# Altium footprint library PTH-Packages.PcbLib: 21 footprints (part 2 of 2)
Each footprint in its own frame and in the unit in brackets; x right, y up, seen from the top. Pads: shape width x height; smd on the part's side, far side on the other; paste and mask are expansions set on the pad; w line width, h text height; cw(c..) or ccw(c..) is an arc to the next point about the centre after c.
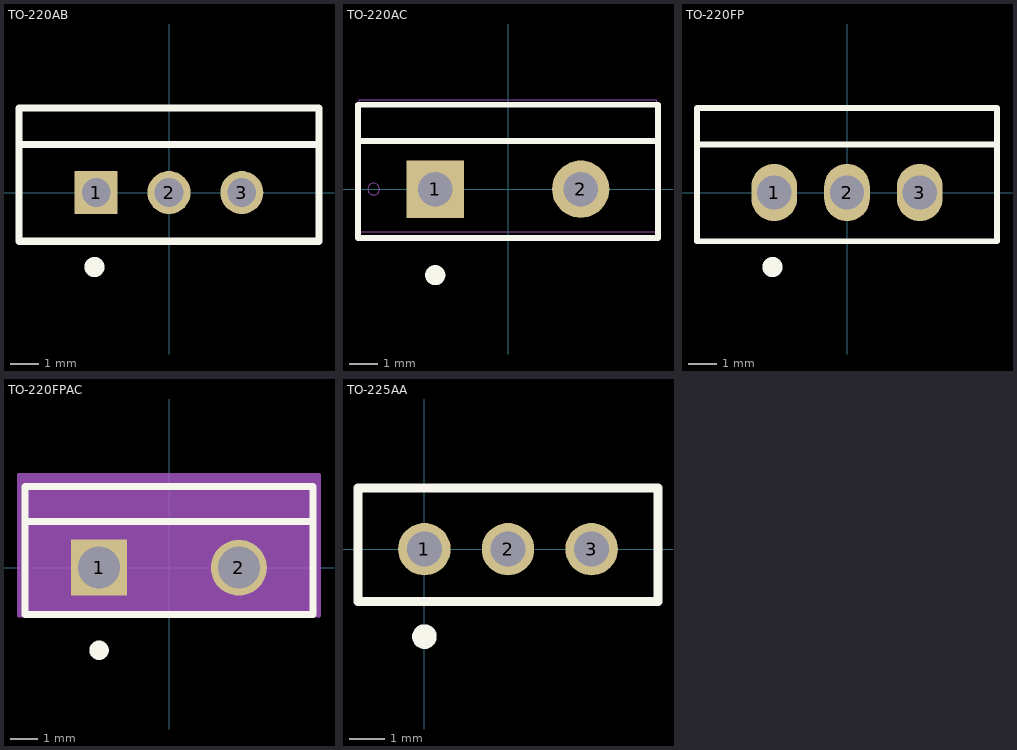
[diagram p1: the footprints below, top view; thin cyan lines are the x and y axes]

## TO-220AB [mm]
pads (3):
  rect 1.5x1.5 hole 1 paste-2539.97 mask+0: 1(-2.54,0)
  round 1.5 hole 1 paste-2539.97 mask+0: 2(0,0) 3(2.54,0)
Top Overlay:
  circle w0.5: c-2.6,-2.6 r0.1
  lines w0.254: -5.105,1.676 5.105,1.676 ; -5.232,-1.702 -5.232,2.946 5.232,2.946 5.232,-1.702 -5.232,-1.702
3D body "IRF4905PBF.step": height 20.3, standoff -9.03, extent -5.207,-1.422 5.207,3.023

## TO-220AC [mm]
pads (2):
  rect 2x2 hole 1.2 paste-2539.97 mask+0: 1(-2.538,0)
  round 2 hole 1.2 paste-2539.97 mask+0: 2(2.538,0)
Top Overlay:
  circle w0.5: c-2.538,-3 r0.1
  lines w0.2: -5.105,1.676 5.105,1.676 ; -5.232,-1.702 5.232,-1.702 5.232,2.946 -5.232,2.946 -5.232,-1.702
Mechanical 13:
  circle w0.025: c-4.686,0 r0.203
  lines w0.025: -5.194,-1.486 -5.194,3.111 5.194,3.111 5.194,-1.486 -5.194,-1.486
  lines w0.152: -2.792,0 -2.284,0 ; -2.538,-0.254 -2.538,0.254
3D body "TO-220 2pins long V1.stp": height 22.51, standoff -7.48, extent -5.942,-1.75 5.942,2.65

## TO-220FP [mm]
pads (3):
  oval 1.6x2 hole 1.2 paste-2539.97 mask+0: 1(-2.54,0) 2(0,0) 3(2.54,0)
Top Overlay:
  circle w0.5: c-2.6,-2.6 r0.1
  lines w0.2: -5.105,1.676 5.105,1.676 ; -5.232,-1.702 -5.232,2.946 5.232,2.946 5.232,-1.702 -5.232,-1.702
3D body "ITO220AB.stp": height 22.29, standoff -1.68, extent -5.08,-1.69 5.08,3.01

## TO-220FPAC [mil]
pads (2):
  rect 80x80 hole 60 paste-99999 mask-40: 1(-99.9,0)
  round 80 hole 60 paste-99999 mask-40: 2(99.9,0)
Top Overlay:
  circle w19.68: c-99.9,-118.11 r3.94
  lines w10: -201,66 201,66 ; -206,-67 206,-67 206,116 -206,116 -206,-67
Mechanical 13:
  circle w1: c-184.5,0 r8
  lines w1: -204.5,-58.5 -204.5,122.5 204.5,122.5 204.5,-58.5 -204.5,-58.5
  lines w6: -109.9,0 -89.9,0 ; -99.9,-10 -99.9,10
Mechanical 15:
  region: 214.5,-68.5 -214.5,-68.5 -214.5,132.5 214.5,132.5
  lines w6: -214.5,-68.5 214.5,-68.5 214.5,132.5 -214.5,132.5 -214.5,-68.5
3D body "ITO220AB-2.stp": height 838.39, standoff -105.31, extent -200,-66.54 200,118.5

## TO-225AA [mm]
pads (3):
  round 1.5 hole 1 paste-2539.97 mask+0: 1(0,0) 2(2.388,0) 3(4.775,0)
Top Overlay:
  circle w0.5: c0,-2.5 r0.1
  lines w0.254: -1.9,-1.5 6.675,-1.5 6.675,1.75 -1.9,1.75 -1.9,-1.5
3D body "TO-225AA.stp": height 18.97, standoff -6.96, extent -1.802,-1.39 6.578,1.65